# EAGLE library part NCN8025 (library laforge)
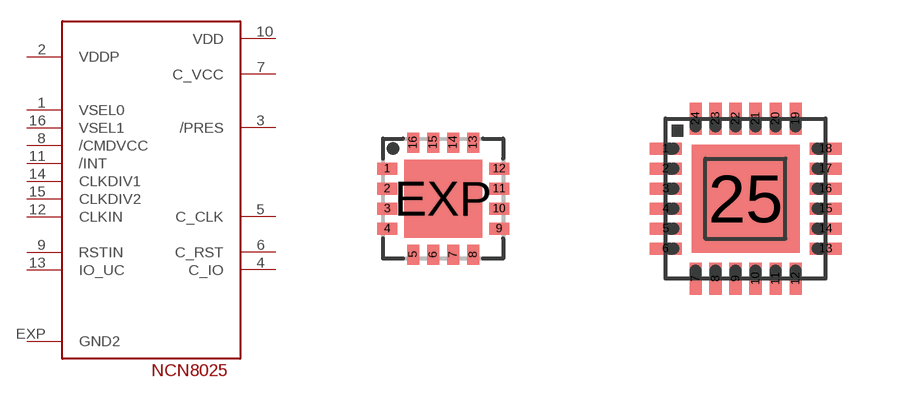
[diagram p0: symbol with the pads of QFN16_3X3; footprints QFN16_3X3, QFN24_4X4]

Designator prefix -

## NCN8025QFN16 (OC_DIGIKEY: NCN8025MTTBGOSCT-ND)  [QFN16_3X3]
1  VSEL0  in
2  VDDP  pwr
3  /PRES  in
4  C_IO
5  C_CLK  out
6  C_RST  out
7  C_VCC  in
8  /CMDVCC  in
9  RSTIN  in
10  VDD  pwr
11  /INT  out
12  CLKIN
13  IO_UC
14  CLKDIV1  in
15  CLKDIV2
16  VSEL1  in
EXP  GND2  pwr

## NCN8025QFN24 (OC_DIGIKEY: NCN8025AMNTXGOSCT-ND)  [QFN24_4X4]
1  VSEL0  in
2  VDDP  pwr
3  /PRES  in
5  C_IO
9  C_CLK  out
10  C_RST  out
11  C_VCC  in
12  /CMDVCC  in
14  RSTIN  in
15  VDD  pwr
17  /INT  out
18  CLKIN
19  IO_UC
22  CLKDIV1  in
23  CLKDIV2
24  VSEL1  in
25  GND2  pwr

## Footprint QFN16_3X3 (pad centres in mm)
smd 0.5 x 0.3: 1 -6.75,2.56; 2 -6.75,2.06; 3 -6.75,1.56; 4 -6.75,1.06; 9 -3.95,1.06; 10 -3.95,1.56; 11 -3.95,2.06; 12 -3.95,2.56
smd 0.3 x 0.5: 5 -6.1,0.41; 6 -5.6,0.41; 7 -5.1,0.41; 8 -4.6,0.41; 13 -4.6,3.21; 14 -5.1,3.21; 15 -5.6,3.21; 16 -6.1,3.21
smd 1.95 x 1.95: EXP -5.35,1.81

## Footprint QFN24_4X4 (pad centres in mm)
smd 0.8 x 0.3: 1 -2.03,1.35; 2 -2.03,0.85; 3 -2.03,0.35; 4 -2.03,-0.15; 5 -2.03,-0.65; 6 -2.03,-1.15; 13 1.97,-1.15; 14 1.97,-0.65; 15 1.97,-0.15; 16 1.97,0.35; 17 1.97,0.85; 18 1.97,1.35
smd 0.3 x 0.8: 7 -1.28,-1.9; 8 -0.78,-1.9; 9 -0.28,-1.9; 10 0.22,-1.9; 11 0.72,-1.9; 12 1.22,-1.9; 19 1.22,2.1; 20 0.72,2.1; 21 0.22,2.1; 22 -0.28,2.1; 23 -0.78,2.1; 24 -1.28,2.1
smd 2.7 x 2.7: 25 -0.03,0.1